# Altium footprint library 可调电容.PcbLib: 4 footprints
Each footprint in its own frame and in the unit in brackets; x right, y up, seen from the top. Pads: shape width x height; smd on the part's side, far side on the other; paste and mask are expansions set on the pad; w line width, h text height; cw(c..) or ccw(c..) is an arc to the next point about the centre after c.
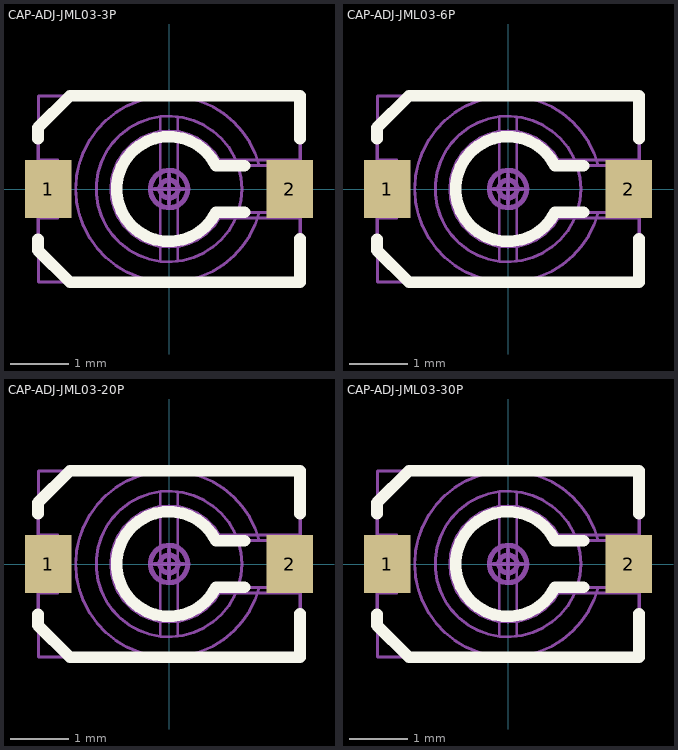
[diagram p0: the footprints below, top view; thin cyan lines are the x and y axes]

## CAP-ADJ-JML03-3P [mm] "贴片可调电容"
height 1.85
pads (2):
  rect 0.8x1 smd: 1(-2.075,0) 2(2.075,0)
Top Overlay:
  lines w0.2: -2.25,-0.864 -2.25,-1.05 -1.7,-1.6 2.25,-1.6 2.25,-0.853 ; -2.25,0.864 -2.25,1.05 -1.7,1.6 2.25,1.6 2.25,0.864 ; 1.295,-0.4 0.806,-0.4 cw(c0,0) 0.806,0.4 1.295,0.4
Mechanical 13:
  lines w0.05: -2.239,-1.6 2.261,-1.6 2.261,1.6 -2.239,1.6 -2.239,-1.6
Mechanical 15:
  circle w0.05: c0,0 r0.135
  circle w0.05: c0,0 r0.175
  circle w0.05: c0,0 r0.175
  circle w0.05: c0,0 r0.3
  circle w0.05: c0,0 r0.3
  circle w0.05: c0,0 r0.34
  circle w0.05: c0,0 r1.25
  circle w0.05: c0,0 r1.25
  lines w0.05: -2.05,-0.4 -2.05,0.4 ; -1.91,-0.4 -2.25,-0.4 -2.25,0.4 -1.91,0.4 ; -0.456,-1.6 -0.456,-1.599 -0.31,-1.599 -0.31,-1.6 ; -0.433,-1.6 -0.433,-1.599 ; -0.361,-1.6 -0.361,-1.599 ; -0.357,-1.6 -0.357,-1.599 ; -0.346,-1.6 -0.346,-1.599 ; -0.342,-1.6 -0.342,-1.599 ; -0.338,-1.6 -0.338,-1.599 ; -0.334,-1.6 -0.334,-1.599 ; -0.326,-1.6 -0.326,-1.599 ; -0.314,-1.6 -0.314,-1.599 ; -0.278,-1.6 -0.278,-1.599 -0.152,-1.599 -0.152,-1.6 ; -0.274,-1.6 -0.274,-1.599 ; -0.27,-1.6 -0.27,-1.599 ; -0.258,-1.6 -0.258,-1.599 ; -0.255,-1.6 -0.255,-1.599 ; -0.247,-1.6 -0.247,-1.599 ; -0.231,-1.6 -0.231,-1.599 ; -0.215,-1.6 -0.215,-1.599 ; -0.199,-1.6 -0.199,-1.599 ; -0.191,-1.6 -0.191,-1.599 ; -0.187,-1.6 -0.187,-1.599 ; -0.179,-1.6 -0.179,-1.599 ; -0.171,-1.6 -0.171,-1.599 ; -0.16,-1.6 -0.16,-1.599 ; -0.156,-1.6 -0.156,-1.599 ; -0.15,-1.241 -0.15,1.241 ; -0.12,-1.6 -0.12,-1.599 -0.017,-1.599 -0.017,-1.6 ; -0.08,-1.6 -0.08,-1.599 ; -0.076,-1.6 -0.076,-1.599 ; -0.068,-1.6 -0.068,-1.599 ; -0.061,-1.6 -0.061,-1.599 ; -0.057,-1.6 -0.057,-1.599 ; -0.053,-1.6 -0.053,-1.599 ; -0.049,-1.6 -0.049,-1.599 ; -0.041,-1.6 -0.041,-1.599 ; -0.033,-1.6 -0.033,-1.599 ; -0.025,-1.6 -0.025,-1.599 ; 0.015,-1.6 0.015,-1.599 0.118,-1.599 0.118,-1.6 ; 0.054,-1.6 0.054,-1.599 ; 0.058,-1.6 0.058,-1.599 ; 0.066,-1.6 0.066,-1.599 ; 0.074,-1.6 0.074,-1.599 ; 0.078,-1.6 0.078,-1.599 ; 0.082,-1.6 0.082,-1.599 ; 0.086,-1.6 0.086,-1.599 ; 0.094,-1.6 0.094,-1.599 ; 0.102,-1.6 0.102,-1.599 ; 0.11,-1.6 0.11,-1.599 ; 0.149,-1.6 0.149,-1.599 0.276,-1.599 0.276,-1.6 ; 0.15,-1.241 0.15,1.241 ; 0.153,-1.6 0.153,-1.599 ; 0.157,-1.6 0.157,-1.599 ; 0.161,-1.6 0.161,-1.599 ; 0.165,-1.6 0.165,-1.599 ; 0.169,-1.6 0.169,-1.599 ; 0.173,-1.6 0.173,-1.599 ; 0.181,-1.6 0.181,-1.599 ; 0.189,-1.6 0.189,-1.599 ; 0.197,-1.6 0.197,-1.599 ; 0.205,-1.6 0.205,-1.599 ; 0.213,-1.6 0.213,-1.599 ; 0.22,-1.6 0.22,-1.599 ; 0.232,-1.6 0.232,-1.599 ; 0.236,-1.6 0.236,-1.599 ; 0.244,-1.6 0.244,-1.599 ; 0.248,-1.6 0.248,-1.599 ; 0.252,-1.6 0.252,-1.599 ; 0.256,-1.6 0.256,-1.599 ; 0.264,-1.6 0.264,-1.599 ; 0.268,-1.6 0.268,-1.599 ; 0.272,-1.6 0.272,-1.599 ; 0.308,-1.6 0.308,-1.599 0.327,-1.599 0.327,-1.6 ; 0.359,-1.6 0.359,-1.599 0.486,-1.599 0.486,-1.6 ; 0.363,-1.6 0.363,-1.599 ; 0.367,-1.6 0.367,-1.599 ; 0.375,-1.6 0.375,-1.599 ; 0.379,-1.6 0.379,-1.599 ; 0.383,-1.6 0.383,-1.599 ; 0.391,-1.6 0.391,-1.599 ; 0.399,-1.6 0.399,-1.599 ; 0.407,-1.6 0.407,-1.599 ; 0.414,-1.6 0.414,-1.599 ; 0.43,-1.6 0.43,-1.599 ; 0.438,-1.6 0.438,-1.599 ; 0.446,-1.6 0.446,-1.599 ; 0.454,-1.6 0.454,-1.599 ; 0.462,-1.6 0.462,-1.599 ; 0.466,-1.6 0.466,-1.599 ; 0.47,-1.6 0.47,-1.599 ; 0.478,-1.6 0.478,-1.599 ; 0.482,-1.6 0.482,-1.599 ; 1.91,-0.5 1.91,0.5 ; -1.7,-1.6 2.25,-1.6 ; -1.7,-1.6 -2.25,-1.05 -2.25,-0.5 -1.91,-0.5 -1.91,0.5 -2.25,0.5 -2.25,1.05 -1.7,1.6 ; -1.7,-1.6 2.25,-1.6 ; -1.7,1.6 2.25,1.6 ; -1.7,1.6 2.25,1.6 ; 2.25,-1.6 2.25,-0.5 0.866,-0.5 cw(c0,0) 0.866,0.5 2.25,0.5 2.25,1.6 ; 0.806,-0.4 cw(c0,0) 0.806,0.4 2.25,0.4 2.25,-0.4 0.806,-0.4 ; 1.549,-0.4 cw(c0,0) 1.549,0.4 2.05,0.4 2.05,-0.4 1.549,-0.4
  lines w0.076: -0.254,0 0.254,0 ; 0,-0.254 0,0.254
3D body: height 1.51, standoff 0, extent -2.239,-1.6 2.261,1.6

## CAP-ADJ-JML03-6P [mm] "贴片可调电容"
height 1.85
pads (2):
  rect 0.8x1 smd: 1(-2.075,0) 2(2.075,0)
Top Overlay:
  lines w0.2: -2.25,-0.864 -2.25,-1.05 -1.7,-1.6 2.25,-1.6 2.25,-0.853 ; -2.25,0.864 -2.25,1.05 -1.7,1.6 2.25,1.6 2.25,0.864 ; 1.295,-0.4 0.806,-0.4 cw(c0,0) 0.806,0.4 1.295,0.4
Mechanical 13:
  lines w0.05: -2.239,-1.6 -2.239,1.6 2.261,1.6 2.261,-1.6 -2.239,-1.6
Mechanical 15:
  circle w0.05: c0,0 r1.25
  circle w0.05: c0,0 r1.25
  circle w0.05: c0,0 r0.34
  circle w0.05: c0,0 r0.3
  circle w0.05: c0,0 r0.3
  circle w0.05: c0,0 r0.175
  circle w0.05: c0,0 r0.175
  circle w0.05: c0,0 r0.135
  lines w0.05: -2.05,-0.4 -2.05,0.4 ; -1.91,-0.4 -2.25,-0.4 -2.25,0.4 -1.91,0.4 ; -0.456,-1.6 -0.456,-1.599 -0.31,-1.599 -0.31,-1.6 ; -0.433,-1.6 -0.433,-1.599 ; -0.361,-1.6 -0.361,-1.599 ; -0.357,-1.6 -0.357,-1.599 ; -0.346,-1.6 -0.346,-1.599 ; -0.342,-1.6 -0.342,-1.599 ; -0.338,-1.6 -0.338,-1.599 ; -0.334,-1.6 -0.334,-1.599 ; -0.326,-1.6 -0.326,-1.599 ; -0.314,-1.6 -0.314,-1.599 ; -0.278,-1.6 -0.278,-1.599 -0.152,-1.599 -0.152,-1.6 ; -0.274,-1.6 -0.274,-1.599 ; -0.27,-1.6 -0.27,-1.599 ; -0.258,-1.6 -0.258,-1.599 ; -0.255,-1.6 -0.255,-1.599 ; -0.247,-1.6 -0.247,-1.599 ; -0.231,-1.6 -0.231,-1.599 ; -0.215,-1.6 -0.215,-1.599 ; -0.199,-1.6 -0.199,-1.599 ; -0.191,-1.6 -0.191,-1.599 ; -0.187,-1.6 -0.187,-1.599 ; -0.179,-1.6 -0.179,-1.599 ; -0.171,-1.6 -0.171,-1.599 ; -0.16,-1.6 -0.16,-1.599 ; -0.156,-1.6 -0.156,-1.599 ; -0.15,-1.241 -0.15,1.241 ; -0.12,-1.6 -0.12,-1.599 -0.017,-1.599 -0.017,-1.6 ; -0.08,-1.6 -0.08,-1.599 ; -0.076,-1.6 -0.076,-1.599 ; -0.068,-1.6 -0.068,-1.599 ; -0.061,-1.6 -0.061,-1.599 ; -0.057,-1.6 -0.057,-1.599 ; -0.053,-1.6 -0.053,-1.599 ; -0.049,-1.6 -0.049,-1.599 ; -0.041,-1.6 -0.041,-1.599 ; -0.033,-1.6 -0.033,-1.599 ; -0.025,-1.6 -0.025,-1.599 ; 0.015,-1.6 0.015,-1.599 0.118,-1.599 0.118,-1.6 ; 0.054,-1.6 0.054,-1.599 ; 0.058,-1.6 0.058,-1.599 ; 0.066,-1.6 0.066,-1.599 ; 0.074,-1.6 0.074,-1.599 ; 0.078,-1.6 0.078,-1.599 ; 0.082,-1.6 0.082,-1.599 ; 0.086,-1.6 0.086,-1.599 ; 0.094,-1.6 0.094,-1.599 ; 0.102,-1.6 0.102,-1.599 ; 0.11,-1.6 0.11,-1.599 ; 0.149,-1.6 0.149,-1.599 0.276,-1.599 0.276,-1.6 ; 0.15,-1.241 0.15,1.241 ; 0.153,-1.6 0.153,-1.599 ; 0.157,-1.6 0.157,-1.599 ; 0.161,-1.6 0.161,-1.599 ; 0.165,-1.6 0.165,-1.599 ; 0.169,-1.6 0.169,-1.599 ; 0.173,-1.6 0.173,-1.599 ; 0.181,-1.6 0.181,-1.599 ; 0.189,-1.6 0.189,-1.599 ; 0.197,-1.6 0.197,-1.599 ; 0.205,-1.6 0.205,-1.599 ; 0.213,-1.6 0.213,-1.599 ; 0.22,-1.6 0.22,-1.599 ; 0.232,-1.6 0.232,-1.599 ; 0.236,-1.6 0.236,-1.599 ; 0.244,-1.6 0.244,-1.599 ; 0.248,-1.6 0.248,-1.599 ; 0.252,-1.6 0.252,-1.599 ; 0.256,-1.6 0.256,-1.599 ; 0.264,-1.6 0.264,-1.599 ; 0.268,-1.6 0.268,-1.599 ; 0.272,-1.6 0.272,-1.599 ; 0.308,-1.6 0.308,-1.599 0.327,-1.599 0.327,-1.6 ; 0.359,-1.6 0.359,-1.599 0.486,-1.599 0.486,-1.6 ; 0.363,-1.6 0.363,-1.599 ; 0.367,-1.6 0.367,-1.599 ; 0.375,-1.6 0.375,-1.599 ; 0.379,-1.6 0.379,-1.599 ; 0.383,-1.6 0.383,-1.599 ; 0.391,-1.6 0.391,-1.599 ; 0.399,-1.6 0.399,-1.599 ; 0.407,-1.6 0.407,-1.599 ; 0.414,-1.6 0.414,-1.599 ; 0.43,-1.6 0.43,-1.599 ; 0.438,-1.6 0.438,-1.599 ; 0.446,-1.6 0.446,-1.599 ; 0.454,-1.6 0.454,-1.599 ; 0.462,-1.6 0.462,-1.599 ; 0.466,-1.6 0.466,-1.599 ; 0.47,-1.6 0.47,-1.599 ; 0.478,-1.6 0.478,-1.599 ; 0.482,-1.6 0.482,-1.599 ; 1.91,-0.5 1.91,0.5 ; -1.7,-1.6 2.25,-1.6 ; -1.7,-1.6 -2.25,-1.05 -2.25,-0.5 -1.91,-0.5 -1.91,0.5 -2.25,0.5 -2.25,1.05 -1.7,1.6 ; -1.7,-1.6 2.25,-1.6 ; -1.7,1.6 2.25,1.6 ; -1.7,1.6 2.25,1.6 ; 2.25,-1.6 2.25,-0.5 0.866,-0.5 cw(c0,0) 0.866,0.5 2.25,0.5 2.25,1.6 ; 0.806,-0.4 cw(c0,0) 0.806,0.4 2.25,0.4 2.25,-0.4 0.806,-0.4 ; 1.549,-0.4 cw(c0,0) 1.549,0.4 2.05,0.4 2.05,-0.4 1.549,-0.4
  lines w0.076: -0.254,0 0.254,0 ; 0,-0.254 0,0.254
3D body: height 1.51, standoff 0, extent -2.239,-1.6 2.261,1.6

## CAP-ADJ-JML03-20P [mm] "贴片可调电容"
height 1.85
pads (2):
  rect 0.8x1 smd: 1(-2.075,0) 2(2.075,0)
Top Overlay:
  lines w0.2: -2.25,-0.864 -2.25,-1.05 -1.7,-1.6 2.25,-1.6 2.25,-0.853 ; -2.25,0.864 -2.25,1.05 -1.7,1.6 2.25,1.6 2.25,0.864 ; 1.295,-0.4 0.806,-0.4 cw(c0,0) 0.806,0.4 1.295,0.4
Mechanical 13:
  lines w0.05: -2.239,-1.6 -2.239,1.6 2.261,1.6 2.261,-1.6 -2.239,-1.6
Mechanical 15:
  circle w0.05: c0,0 r1.25
  circle w0.05: c0,0 r1.25
  circle w0.05: c0,0 r0.34
  circle w0.05: c0,0 r0.3
  circle w0.05: c0,0 r0.3
  circle w0.05: c0,0 r0.175
  circle w0.05: c0,0 r0.175
  circle w0.05: c0,0 r0.135
  lines w0.05: -2.05,-0.4 -2.05,0.4 ; -1.91,-0.4 -2.25,-0.4 -2.25,0.4 -1.91,0.4 ; -0.456,-1.6 -0.456,-1.599 -0.31,-1.599 -0.31,-1.6 ; -0.433,-1.6 -0.433,-1.599 ; -0.361,-1.6 -0.361,-1.599 ; -0.357,-1.6 -0.357,-1.599 ; -0.346,-1.6 -0.346,-1.599 ; -0.342,-1.6 -0.342,-1.599 ; -0.338,-1.6 -0.338,-1.599 ; -0.334,-1.6 -0.334,-1.599 ; -0.326,-1.6 -0.326,-1.599 ; -0.314,-1.6 -0.314,-1.599 ; -0.278,-1.6 -0.278,-1.599 -0.152,-1.599 -0.152,-1.6 ; -0.274,-1.6 -0.274,-1.599 ; -0.27,-1.6 -0.27,-1.599 ; -0.258,-1.6 -0.258,-1.599 ; -0.255,-1.6 -0.255,-1.599 ; -0.247,-1.6 -0.247,-1.599 ; -0.231,-1.6 -0.231,-1.599 ; -0.215,-1.6 -0.215,-1.599 ; -0.199,-1.6 -0.199,-1.599 ; -0.191,-1.6 -0.191,-1.599 ; -0.187,-1.6 -0.187,-1.599 ; -0.179,-1.6 -0.179,-1.599 ; -0.171,-1.6 -0.171,-1.599 ; -0.16,-1.6 -0.16,-1.599 ; -0.156,-1.6 -0.156,-1.599 ; -0.15,-1.241 -0.15,1.241 ; -0.12,-1.6 -0.12,-1.599 -0.017,-1.599 -0.017,-1.6 ; -0.08,-1.6 -0.08,-1.599 ; -0.076,-1.6 -0.076,-1.599 ; -0.068,-1.6 -0.068,-1.599 ; -0.061,-1.6 -0.061,-1.599 ; -0.057,-1.6 -0.057,-1.599 ; -0.053,-1.6 -0.053,-1.599 ; -0.049,-1.6 -0.049,-1.599 ; -0.041,-1.6 -0.041,-1.599 ; -0.033,-1.6 -0.033,-1.599 ; -0.025,-1.6 -0.025,-1.599 ; 0.015,-1.6 0.015,-1.599 0.118,-1.599 0.118,-1.6 ; 0.054,-1.6 0.054,-1.599 ; 0.058,-1.6 0.058,-1.599 ; 0.066,-1.6 0.066,-1.599 ; 0.074,-1.6 0.074,-1.599 ; 0.078,-1.6 0.078,-1.599 ; 0.082,-1.6 0.082,-1.599 ; 0.086,-1.6 0.086,-1.599 ; 0.094,-1.6 0.094,-1.599 ; 0.102,-1.6 0.102,-1.599 ; 0.11,-1.6 0.11,-1.599 ; 0.149,-1.6 0.149,-1.599 0.276,-1.599 0.276,-1.6 ; 0.15,-1.241 0.15,1.241 ; 0.153,-1.6 0.153,-1.599 ; 0.157,-1.6 0.157,-1.599 ; 0.161,-1.6 0.161,-1.599 ; 0.165,-1.6 0.165,-1.599 ; 0.169,-1.6 0.169,-1.599 ; 0.173,-1.6 0.173,-1.599 ; 0.181,-1.6 0.181,-1.599 ; 0.189,-1.6 0.189,-1.599 ; 0.197,-1.6 0.197,-1.599 ; 0.205,-1.6 0.205,-1.599 ; 0.213,-1.6 0.213,-1.599 ; 0.22,-1.6 0.22,-1.599 ; 0.232,-1.6 0.232,-1.599 ; 0.236,-1.6 0.236,-1.599 ; 0.244,-1.6 0.244,-1.599 ; 0.248,-1.6 0.248,-1.599 ; 0.252,-1.6 0.252,-1.599 ; 0.256,-1.6 0.256,-1.599 ; 0.264,-1.6 0.264,-1.599 ; 0.268,-1.6 0.268,-1.599 ; 0.272,-1.6 0.272,-1.599 ; 0.308,-1.6 0.308,-1.599 0.327,-1.599 0.327,-1.6 ; 0.359,-1.6 0.359,-1.599 0.486,-1.599 0.486,-1.6 ; 0.363,-1.6 0.363,-1.599 ; 0.367,-1.6 0.367,-1.599 ; 0.375,-1.6 0.375,-1.599 ; 0.379,-1.6 0.379,-1.599 ; 0.383,-1.6 0.383,-1.599 ; 0.391,-1.6 0.391,-1.599 ; 0.399,-1.6 0.399,-1.599 ; 0.407,-1.6 0.407,-1.599 ; 0.414,-1.6 0.414,-1.599 ; 0.43,-1.6 0.43,-1.599 ; 0.438,-1.6 0.438,-1.599 ; 0.446,-1.6 0.446,-1.599 ; 0.454,-1.6 0.454,-1.599 ; 0.462,-1.6 0.462,-1.599 ; 0.466,-1.6 0.466,-1.599 ; 0.47,-1.6 0.47,-1.599 ; 0.478,-1.6 0.478,-1.599 ; 0.482,-1.6 0.482,-1.599 ; 1.91,-0.5 1.91,0.5 ; -1.7,-1.6 2.25,-1.6 ; -1.7,-1.6 -2.25,-1.05 -2.25,-0.5 -1.91,-0.5 -1.91,0.5 -2.25,0.5 -2.25,1.05 -1.7,1.6 ; -1.7,-1.6 2.25,-1.6 ; -1.7,1.6 2.25,1.6 ; -1.7,1.6 2.25,1.6 ; 2.25,-1.6 2.25,-0.5 0.866,-0.5 cw(c0,0) 0.866,0.5 2.25,0.5 2.25,1.6 ; 0.806,-0.4 cw(c0,0) 0.806,0.4 2.25,0.4 2.25,-0.4 0.806,-0.4 ; 1.549,-0.4 cw(c0,0) 1.549,0.4 2.05,0.4 2.05,-0.4 1.549,-0.4
  lines w0.076: -0.254,0 0.254,0 ; 0,-0.254 0,0.254
3D body: height 1.51, standoff 0, extent -2.239,-1.6 2.261,1.6

## CAP-ADJ-JML03-30P [mm] "贴片可调电容"
height 1.85
pads (2):
  rect 0.8x1 smd: 1(-2.075,0) 2(2.075,0)
Top Overlay:
  lines w0.2: -2.25,-0.864 -2.25,-1.05 -1.7,-1.6 2.25,-1.6 2.25,-0.853 ; -2.25,0.864 -2.25,1.05 -1.7,1.6 2.25,1.6 2.25,0.864 ; 1.295,-0.4 0.806,-0.4 cw(c0,0) 0.806,0.4 1.295,0.4
Mechanical 13:
  lines w0.05: -2.239,-1.6 -2.239,1.6 2.261,1.6 2.261,-1.6 -2.239,-1.6
Mechanical 15:
  circle w0.05: c0,0 r1.25
  circle w0.05: c0,0 r1.25
  circle w0.05: c0,0 r0.34
  circle w0.05: c0,0 r0.3
  circle w0.05: c0,0 r0.3
  circle w0.05: c0,0 r0.175
  circle w0.05: c0,0 r0.175
  circle w0.05: c0,0 r0.135
  lines w0.05: -2.05,-0.4 -2.05,0.4 ; -1.91,-0.4 -2.25,-0.4 -2.25,0.4 -1.91,0.4 ; -0.456,-1.6 -0.456,-1.599 -0.31,-1.599 -0.31,-1.6 ; -0.433,-1.6 -0.433,-1.599 ; -0.361,-1.6 -0.361,-1.599 ; -0.357,-1.6 -0.357,-1.599 ; -0.346,-1.6 -0.346,-1.599 ; -0.342,-1.6 -0.342,-1.599 ; -0.338,-1.6 -0.338,-1.599 ; -0.334,-1.6 -0.334,-1.599 ; -0.326,-1.6 -0.326,-1.599 ; -0.314,-1.6 -0.314,-1.599 ; -0.278,-1.6 -0.278,-1.599 -0.152,-1.599 -0.152,-1.6 ; -0.274,-1.6 -0.274,-1.599 ; -0.27,-1.6 -0.27,-1.599 ; -0.258,-1.6 -0.258,-1.599 ; -0.255,-1.6 -0.255,-1.599 ; -0.247,-1.6 -0.247,-1.599 ; -0.231,-1.6 -0.231,-1.599 ; -0.215,-1.6 -0.215,-1.599 ; -0.199,-1.6 -0.199,-1.599 ; -0.191,-1.6 -0.191,-1.599 ; -0.187,-1.6 -0.187,-1.599 ; -0.179,-1.6 -0.179,-1.599 ; -0.171,-1.6 -0.171,-1.599 ; -0.16,-1.6 -0.16,-1.599 ; -0.156,-1.6 -0.156,-1.599 ; -0.15,-1.241 -0.15,1.241 ; -0.12,-1.6 -0.12,-1.599 -0.017,-1.599 -0.017,-1.6 ; -0.08,-1.6 -0.08,-1.599 ; -0.076,-1.6 -0.076,-1.599 ; -0.068,-1.6 -0.068,-1.599 ; -0.061,-1.6 -0.061,-1.599 ; -0.057,-1.6 -0.057,-1.599 ; -0.053,-1.6 -0.053,-1.599 ; -0.049,-1.6 -0.049,-1.599 ; -0.041,-1.6 -0.041,-1.599 ; -0.033,-1.6 -0.033,-1.599 ; -0.025,-1.6 -0.025,-1.599 ; 0.015,-1.6 0.015,-1.599 0.118,-1.599 0.118,-1.6 ; 0.054,-1.6 0.054,-1.599 ; 0.058,-1.6 0.058,-1.599 ; 0.066,-1.6 0.066,-1.599 ; 0.074,-1.6 0.074,-1.599 ; 0.078,-1.6 0.078,-1.599 ; 0.082,-1.6 0.082,-1.599 ; 0.086,-1.6 0.086,-1.599 ; 0.094,-1.6 0.094,-1.599 ; 0.102,-1.6 0.102,-1.599 ; 0.11,-1.6 0.11,-1.599 ; 0.149,-1.6 0.149,-1.599 0.276,-1.599 0.276,-1.6 ; 0.15,-1.241 0.15,1.241 ; 0.153,-1.6 0.153,-1.599 ; 0.157,-1.6 0.157,-1.599 ; 0.161,-1.6 0.161,-1.599 ; 0.165,-1.6 0.165,-1.599 ; 0.169,-1.6 0.169,-1.599 ; 0.173,-1.6 0.173,-1.599 ; 0.181,-1.6 0.181,-1.599 ; 0.189,-1.6 0.189,-1.599 ; 0.197,-1.6 0.197,-1.599 ; 0.205,-1.6 0.205,-1.599 ; 0.213,-1.6 0.213,-1.599 ; 0.22,-1.6 0.22,-1.599 ; 0.232,-1.6 0.232,-1.599 ; 0.236,-1.6 0.236,-1.599 ; 0.244,-1.6 0.244,-1.599 ; 0.248,-1.6 0.248,-1.599 ; 0.252,-1.6 0.252,-1.599 ; 0.256,-1.6 0.256,-1.599 ; 0.264,-1.6 0.264,-1.599 ; 0.268,-1.6 0.268,-1.599 ; 0.272,-1.6 0.272,-1.599 ; 0.308,-1.6 0.308,-1.599 0.327,-1.599 0.327,-1.6 ; 0.359,-1.6 0.359,-1.599 0.486,-1.599 0.486,-1.6 ; 0.363,-1.6 0.363,-1.599 ; 0.367,-1.6 0.367,-1.599 ; 0.375,-1.6 0.375,-1.599 ; 0.379,-1.6 0.379,-1.599 ; 0.383,-1.6 0.383,-1.599 ; 0.391,-1.6 0.391,-1.599 ; 0.399,-1.6 0.399,-1.599 ; 0.407,-1.6 0.407,-1.599 ; 0.414,-1.6 0.414,-1.599 ; 0.43,-1.6 0.43,-1.599 ; 0.438,-1.6 0.438,-1.599 ; 0.446,-1.6 0.446,-1.599 ; 0.454,-1.6 0.454,-1.599 ; 0.462,-1.6 0.462,-1.599 ; 0.466,-1.6 0.466,-1.599 ; 0.47,-1.6 0.47,-1.599 ; 0.478,-1.6 0.478,-1.599 ; 0.482,-1.6 0.482,-1.599 ; 1.91,-0.5 1.91,0.5 ; -1.7,-1.6 2.25,-1.6 ; -1.7,-1.6 -2.25,-1.05 -2.25,-0.5 -1.91,-0.5 -1.91,0.5 -2.25,0.5 -2.25,1.05 -1.7,1.6 ; -1.7,-1.6 2.25,-1.6 ; -1.7,1.6 2.25,1.6 ; -1.7,1.6 2.25,1.6 ; 2.25,-1.6 2.25,-0.5 0.866,-0.5 cw(c0,0) 0.866,0.5 2.25,0.5 2.25,1.6 ; 0.806,-0.4 cw(c0,0) 0.806,0.4 2.25,0.4 2.25,-0.4 0.806,-0.4 ; 1.549,-0.4 cw(c0,0) 1.549,0.4 2.05,0.4 2.05,-0.4 1.549,-0.4
  lines w0.076: -0.254,0 0.254,0 ; 0,-0.254 0,0.254
3D body: height 1.51, standoff 0, extent -2.239,-1.6 2.261,1.6